# Altium integrated library HDSP-5501.IntLib: 1 symbol
Pins are listed as number, name and electrical type; pins without a type are passive.

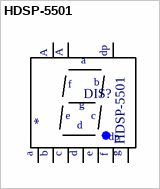
[diagram p0: symbol HDSP-5501]

## HDSP-5501
designator DIS?
Display: LED; 7-segment; 14.22mm; red; 0.9-2.8mcd; anode; No.char: 1; MF: Broadcom Limited; Package: DIP-10 Broadcom; MP: HDSP-5501; Price: None; SnapEDA_Link: https://www.snapeda.com/parts/HDSP-5501/Broadcom%20Limited/view-part/524071/?ref=snap; Availability: Unavailable; Value: *; Part: *
footprint *HDSP-M
pins: 1 E, 2 D, 3 CA1, 4 C, 5 DP, 6 B, 7 A, 8 CA2, 9 F, 10 G
text: dp; a; b; f; g; e; c; d